# Altium schematic symbol library LED.SchLib: 23 symbols
Pins are listed as number, name and electrical type; pins without a type are passive.

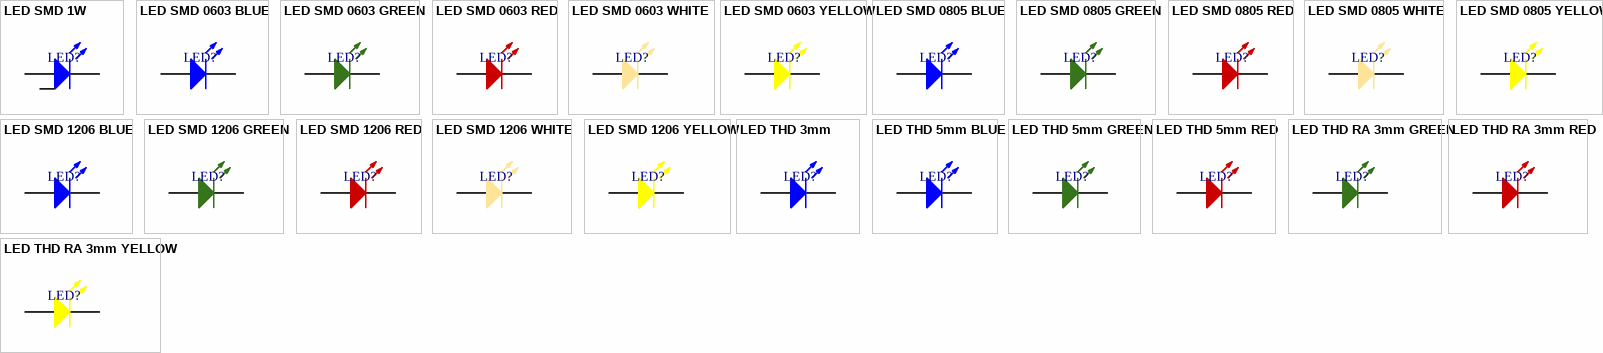
[diagram p0: symbols LED SMD 1W to LED THD RA 3mm YELLOW]

## LED SMD 1W
designator LED?
footprint LED_1WATT_SMD (LED, 1WATT)
pins: 1 A, 2 K, 3

## LED SMD 0603 BLUE
designator LED?
footprint LED_0603_RED (LED SMD 0603, RED)
pins: 1 A, 2 K

## LED SMD 0603 GREEN
designator LED?
footprint LED_0603_GREEN (LED SMD 0603, GREEN)
pins: 1 A, 2 K

## LED SMD 0603 RED
designator LED?
footprint LED_0603_BLUE (LED SMD 0603, BLUE)
pins: 1 A, 2 K

## LED SMD 0603 WHITE 
designator LED?
footprint LED_0603_WHITE (LED SMD 0603, WHITE)
pins: 1 A, 2 K

## LED SMD 0603 YELLOW
designator LED?
footprint LED_0603_YELLOW (LED SMD 0603, YELLOW)
pins: 1 A, 2 K

## LED SMD 0805 BLUE
designator LED?
footprint LED_0805_RED (LED SMD 0805, RED)
pins: 1 A, 2 K

## LED SMD 0805 GREEN
designator LED?
footprint LED_0805_GREEN (LED SMD 0805, GREEN)
pins: 1 A, 2 K

## LED SMD 0805 RED
designator LED?
footprint LED_0805_RED (LED SMD 0805, RED)
pins: 1 A, 2 K

## LED SMD 0805 WHITE
designator LED?
footprint LED_0805_WHITE (LED SMD 0805, WHITE)
pins: 1 A, 2 K

## LED SMD 0805 YELLOW
designator LED?
footprint LED_0805_YELLOW (Footprint not found)
pins: 1 A, 2 K

## LED SMD 1206 BLUE
designator LED?
footprint LED_1206_RED (LED, 1206, RED)
pins: 1 A, 2 K

## LED SMD 1206 GREEN
designator LED?
footprint LED_1206_GREEN (LED, 1206, GREEN)
pins: 1 A, 2 K

## LED SMD 1206 RED
designator LED?
footprint LED_1206_BLUE (LED, 1206, BLUE)
pins: 1 A, 2 K

## LED SMD 1206 WHITE
designator LED?
footprint LED_1206_WHITE (LED, 1206, WHITE)
pins: 1 A, 2 K

## LED SMD 1206 YELLOW
designator LED?
footprint LED_1206_YELLOW (LED, 1206, YELLOW)
pins: 1 A, 2 K

## LED THD 3mm
designator LED?
footprint LED_3MM (LED THD 3MM)
pins: 1 A, 2 K

## LED THD 5mm BLUE
designator LED?
footprint LED_5MM_BLUE (LED THD 5MM BLUE)
pins: 1 A, 2 K

## LED THD 5mm GREEN
designator LED?
footprint LED_5MM_GREEN (LED THD 5MM GREEN)
pins: 1 A, 2 K

## LED THD 5mm RED
designator LED?
footprint LED_5MM_RED (LED THD 5MM RED)
pins: 1 A, 2 K

## LED THD RA 3mm GREEN
designator LED?
footprint LED_3MM_RA_GREEN (LED THD 3MM RIGHT ANGLE, GREEN)
pins: 1 A, 2 K

## LED THD RA 3mm RED
designator LED?
footprint LED_3MM_RA_RED (LED THD 3MM RIGHT ANGLE, RED)
pins: 1 A, 2 K

## LED THD RA 3mm YELLOW
designator LED?
footprint LED_3MM_RA_YELLOW (LED THD 3MM RIGHT ANGLE, YELLOW)
pins: 1 A, 2 K